# EAGLE library part USB-MINI-B-VERTICAL-WURTH (library usb)
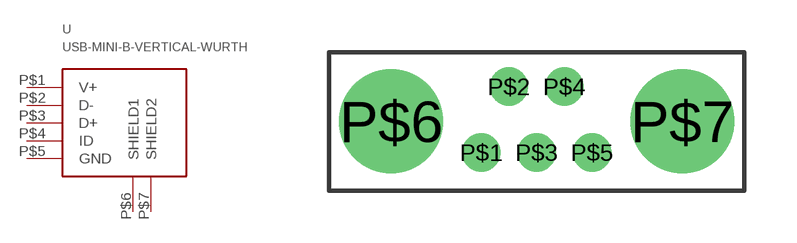
[diagram p0: symbol with the pads of MINI-B-VERTICAL-WURTH; footprint MINI-B-VERTICAL-WURTH]

Designator prefix -

## USB-MINI-B-VERTICAL-WURTH  [MINI-B-VERTICAL-WURTH]
P$1  V+
P$2  D-
P$3  D+
P$4  ID
P$5  GND
P$6  SHIELD1
P$7  SHIELD2

## Footprint MINI-B-VERTICAL-WURTH (pad centres in mm)
drill 0.6: P$1 1.4,-0.9; P$2 2.2,1; P$3 3,-0.9; P$4 3.8,1; P$5 4.6,-0.9
drill 2: P$6 -1.2,0; P$7 7.2,0